# EAGLE library part MLX90393SLW-ABA-011-RE (library MLX90393SLW-ABA-011-RE)
Board Mount Hall Effect / Magnetic Sensors Triaxis Magnetic node - Micropower Magnetometer ft. SPI/I2C Output - I2C_address 0x03h - Consumer Grade (Gen.III) Source: Datasheet <https://componentsearchengine.com/Datasheets/1/MLX90393SLW-ABA-011-RE.pdf>
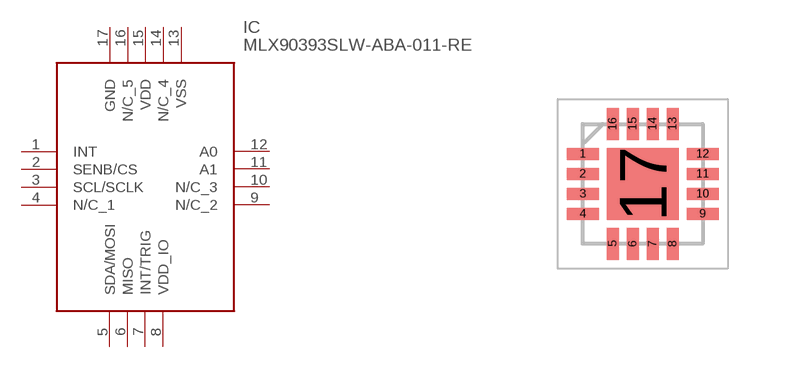
[diagram p0: symbol with the pads of QFN50P300X300X100-17N; footprint QFN50P300X300X100-17N]

Designator prefix IC

## MLX90393SLW-ABA-011-RE (Description: Board Mount Hall Effect / Magnetic Sensors Triaxis Magnetic node - Micropower Magnetometer ft. SPI/I2C Output - I2C_address 0x03h - Consumer Grade (Gen.III); Height: 1mm; Manufacturer_Name: Melexis; Manufacturer_Part_Number: MLX90393SLW-ABA-011-RE; Mouser_Part_Number: 482-90393SLWABA011RE; Mouser_Price-Stock: https://www.mouser.co.uk/ProductDetail/Melexis/MLX90393SLW-ABA-011-RE?qs=KuGPmAKtFKWTlMmUHhqzlg%3D%3D)  [QFN50P300X300X100-17N]
1  INT
2  SENB/CS
3  SCL/SCLK
4  N/C_1
5  SDA/MOSI
6  MISO
7  INT/TRIG
8  VDD_IO
9  N/C_2
10  N/C_3
11  A1
12  A0
13  VSS
14  N/C_4
15  VDD
16  N/C_5
17  GND

## Footprint QFN50P300X300X100-17N (pad centres in mm)
QFN-16
smd 0.8 x 0.3: 1 -1.5,0.75; 2 -1.5,0.25; 3 -1.5,-0.25; 4 -1.5,-0.75; 9 1.5,-0.75; 10 1.5,-0.25; 11 1.5,0.25; 12 1.5,0.75
smd 0.3 x 0.8: 5 -0.75,-1.5; 6 -0.25,-1.5; 7 0.25,-1.5; 8 0.75,-1.5; 13 0.75,1.5; 14 0.25,1.5; 15 -0.25,1.5; 16 -0.75,1.5
smd 1.8 x 1.8: 17 0,0